# EAGLE library part RFM69W/HW (library hoperf)
HopeRF RFM69W / RFM69HW ISM Band Radio Modules The RFM69W/HW are transceiver modules capable of operation over a wide frequency range, including the 315, 433, 868 and 915MHz license-free ISM (Industry Scientific and Medical) frequency bands. All major RF communication parameters are programmable and most of them can be dynamically set. The RFM69W/HW offer the unique advantage of programmable narrow-band and wide- band communication modes The RFM69W/HW are optimized for low power consumption while offering high RF output power and channelized operation. Compliance ETSI and FCC regulations. Features +13 dBm (+20 dBm - 100 mW for HW variant) Power Output Capability High Sensitivity: down to -120 dBm at 1.2 kbps High Selectivity: 16-tap FIR Channel Filter Bullet-proof front end: IIP3 = -18 dBm, IIP2 = +35 dBm,80 dB Blocking Immunity, no Image Frequency response Low current: Rx = 16 mA, 100nA register retention Programmable Pout: -18 to +13 dBm (+20 dBm for the HW variant) in 1dB steps Constant RF performance over voltage range of module FSK Bit rates up to 300 kb/s Fully integrated synthesizer with a resolution of 61 Hz FSK, GFSK, MSK, GMSK and OOK modulations Built-in Bit Synchronizer performing Clock Recovery Incoming Sync Word Recognition 115 dB+ Dynamic Range RSSI Automatic RF Sense with ultra-fast AFC Packet engine with CRC-16, AES-128, 66-byte FIFO Built-in temperature sensor Module Size:19.7X16mm Purchase at: Anarduino.com <http://www.anarduino.com/?cid=1> RS Components <http://au.rs-online.com/web/c/computing-peripherals/wireless-components-modules/telemetry-modules/?searchTerm=RFM69W&h=s&sra=oss&redirect-relevancy-data=636F3D3226696E3D4931384E4B6E6F776E41734D504E266C753D656E266D6D3D6D61746368616C6C7061727469616C26706D3D5E5B5C707B4C7D5C707B4E647D2D2C2F255C2E5D2B2426706F3D313326736E3D592673743D4D414E5F504152545F4E554D4245522677633D424F5448267573743D52464D363957267374613D52464D36395726>
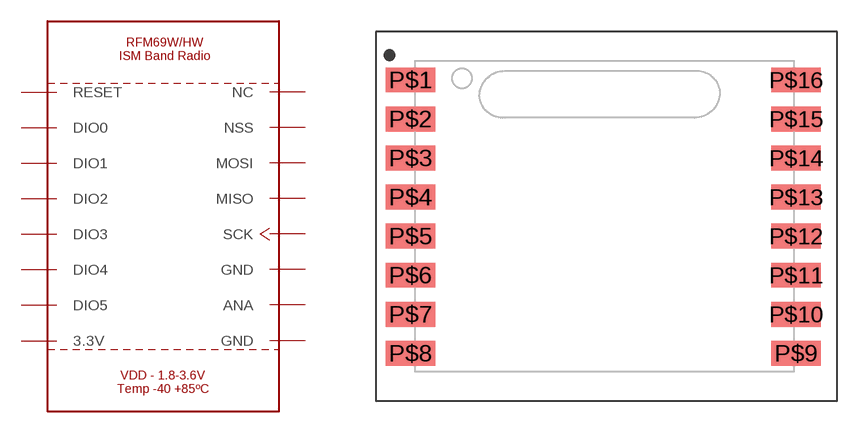
[diagram p0: symbol with the pads of RFM69W/HW; footprint RFM69W/HW]

Designator prefix -

## RFM69W/HW-  [RFM69W/HW]
P$1  RESET
P$2  DIO0
P$3  DIO1
P$4  DIO2
P$5  DIO3
P$6  DIO4
P$7  DIO5
P$8  3.3V  pwr
P$9  GND  pwr
P$10  ANA
P$11  GND  pwr
P$12  SCK
P$13  MISO
P$14  MOSI
P$15  NSS
P$16  NC  nc

## Footprint RFM69W/HW (pad centres in mm)
smd 2.54 x 1.27: P$1 -10.03,7.035; P$2 -10.03,5.035; P$3 -10.03,3.035; P$4 -10.03,1.035; P$5 -10.03,-0.965; P$6 -10.03,-2.965; P$7 -10.03,-4.965; P$8 -10.03,-6.965; P$9 9.7,-6.965; P$10 9.7,-4.965; P$11 9.7,-2.965; P$12 9.7,-0.965; P$13 9.7,1.035; P$14 9.7,3.035; P$15 9.7,5.035; P$16 9.7,7.035